# Altium schematic symbol library ACS722KMATR-10AB-T.SchLib: 1 symbol
Pins are listed as number, name and electrical type; pins without a type are passive.

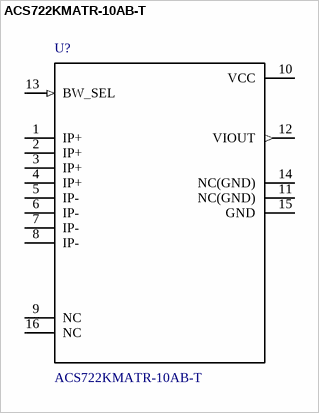
[diagram p0: symbol ACS722KMATR-10AB-T]

## ACS722KMATR-10AB-T
designator U?
High Accuracy, Galvanically Isolated Current Sensor IC With Small Footprint SOIC8 Package; MF: Allegro MicroSystems LLC; Package: SOIC-16 Allegro MicroSystems LLC; Availability: Good; MP: ACS722KMATR-10AB-T; SnapEDA_Link: https://www.snapeda.com/parts/ACS722KMATR-10AB-T/Allegro%20MicroSystems%20LLC/view-part/?ref=snap; Price: 4.36 USD; Value: *
footprint SOIC127P1030X275-16N
pins: 1 IP+, 2 IP+, 3 IP+, 4 IP+, 5 IP-, 6 IP-, 7 IP-, 8 IP-, 9 NC, 10 VCC (power), 11 NC(GND), 12 VIOUT (out), 13 BW_SEL (in), 14 NC(GND), 15 GND (power), 16 NC